# Altium footprint library NFC_Access_Lib.PcbLib: 44 footprints (part 3 of 3)
Each footprint in its own frame and in the unit in brackets; x right, y up, seen from the top. Pads: shape width x height; smd on the part's side, far side on the other; paste and mask are expansions set on the pad; w line width, h text height; cw(c..) or ccw(c..) is an arc to the next point about the centre after c.
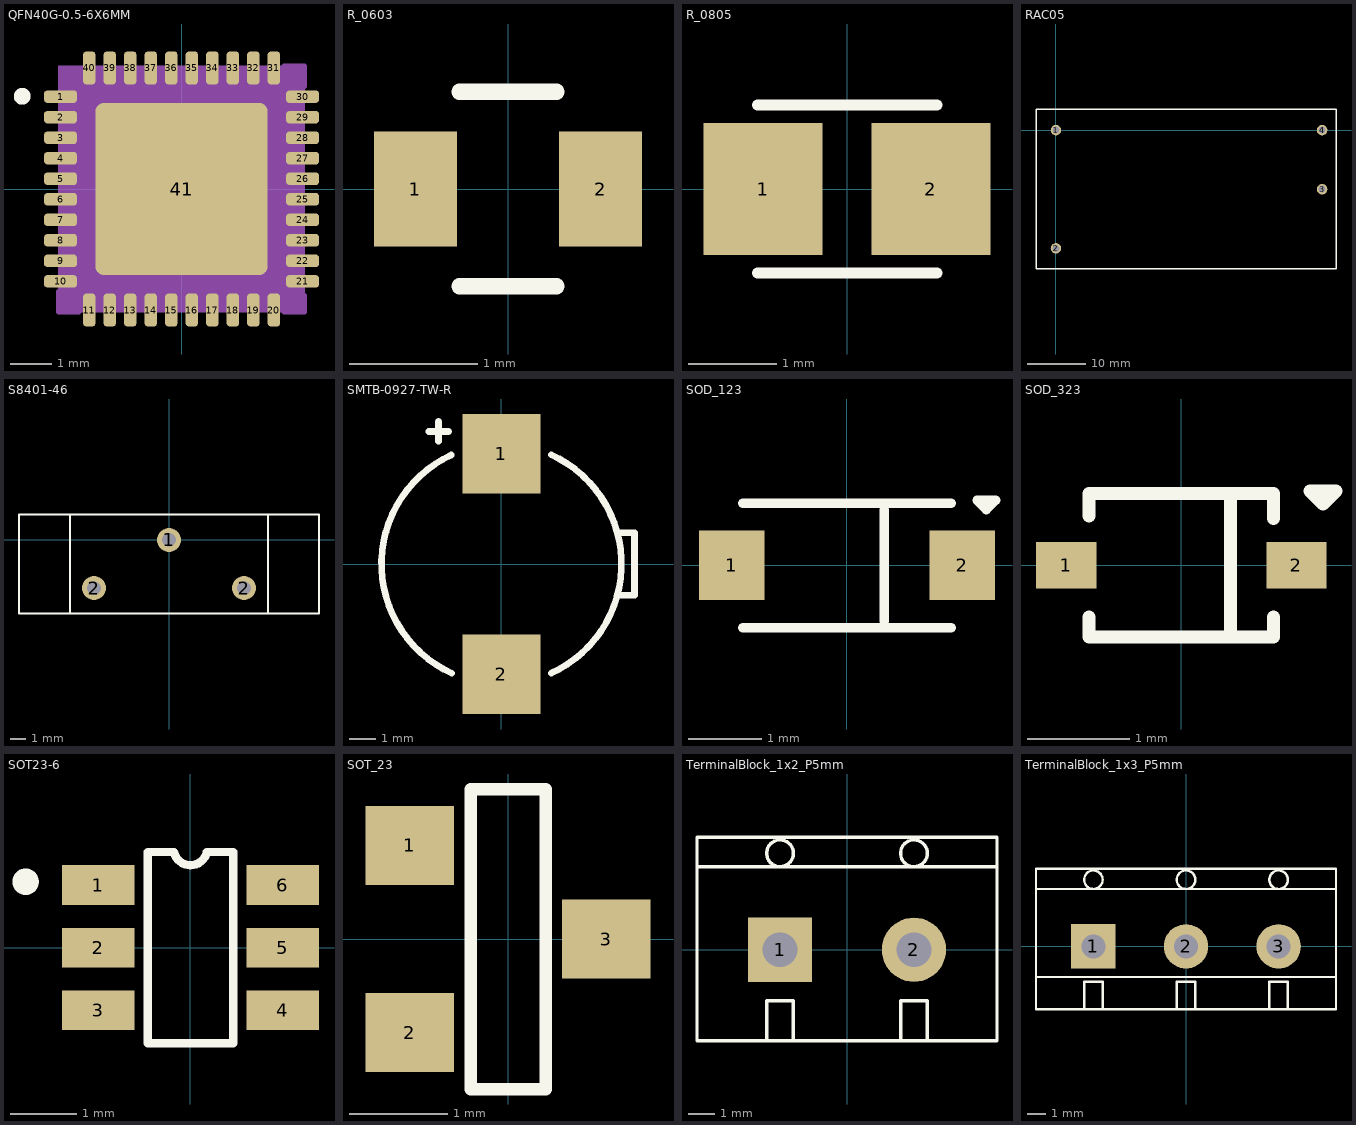
[diagram p2: the footprints below, top view; thin cyan lines are the x and y axes]

## QFN40G-0.5-6X6MM [mm]
pads (41):
  rrect50% 0.8x0.3 smd: 1(-2.95,2.25) 2(-2.95,1.75) 3(-2.95,1.25) 4(-2.95,0.75) 5(-2.95,0.25) 6(-2.95,-0.25) 7(-2.95,-0.75) 8(-2.95,-1.25) 9(-2.95,-1.75) 10(-2.95,-2.25) 21(2.95,-2.25) 22(2.95,-1.75) 23(2.95,-1.25) 24(2.95,-0.75) 25(2.95,-0.25) 26(2.95,0.25) 27(2.95,0.75) 28(2.95,1.25) 29(2.95,1.75) 30(2.95,2.25)
  rrect50% 0.3x0.8 smd: 11(-2.25,-2.95) 12(-1.75,-2.95) 13(-1.25,-2.95) 14(-0.75,-2.95) 15(-0.25,-2.95) 16(0.25,-2.95) 17(0.75,-2.95) 18(1.25,-2.95) 19(1.75,-2.95) 20(2.25,-2.95) 31(2.25,2.95) 32(1.75,2.95) 33(1.25,2.95) 34(0.75,2.95) 35(0.25,2.95) 36(-0.25,2.95) 37(-0.75,2.95) 38(-1.25,2.95) 39(-1.75,2.95) 40(-2.25,2.95)
  rrect10% 4.2x4.2 smd: 41(0,0)
Top Overlay:
  circle w0.254: c-3.886,2.261 r0.076
Mechanical 13:
  lines w0.127: -3,-2.5 -3,-3 -2.5,-3 ; 2.5,-3 3,-3 3,-2.6 ; 2.5,3 3,3 3,2.5
Mechanical 15:
  region: 3,-3 -3,-3 -3,3 3,3

## R_0603 [mm] "Chip Resistor, 2-Leads, Body 2.00x1.25mm, IPC Low Density"
height 0.65
pads (2):
  rect 0.65x0.9 smd: 1(-0.725,0) 2(0.725,0)
Top Overlay:
  lines w0.127: -0.381,-0.762 0.381,-0.762 ; -0.381,0.762 0.381,0.762

## R_0805 [mm] "Chip Resistor, 2-Leads, Body 2.00x1.25mm, IPC Low Density"
height 0.65
pads (2):
  rect 1.35x1.5 smd: 1(-0.95,0) 2(0.95,0)
Top Overlay:
  lines w0.127: -1.016,-0.953 1.016,-0.953 ; -1.016,0.953 1.016,0.953
3D body "User Library-CR2012-0805.STEP": height 0.6, standoff 0, extent -1,-0.625 1,0.625

## RAC05 [mm]
pads (4):
  round 1.8 hole 1.2: 1(0,0) 2(0,-20.32) 3(45.72,-10.16) 4(45.72,0)
Top Overlay:
  lines w0.254: -3.429,-23.82 -3.39,-23.82 ; -3.39,-23.82 48.11,-23.82 48.11,3.58 -3.39,3.58 -3.39,-23.82

## S8401-46 [mm]
pads (3):
  round 1.6 hole 0.9: 1(0,0) 2(-5,-3.2) 2(5,-3.2)
Top Overlay:
  lines w0.127: -6.6,-4.9 -6.6,1.7 ; 6.6,-4.9 6.6,1.7 ; -10,-4.9 10,-4.9 10,1.7 -10,1.7 -10,-4.9

## SMTB-0927-TW-R [mm] "3V3 Active Buzzer"
pads (2):
  rect 3x3.05 smd: 1(0,4.225) 2(0,-4.225)
Top Overlay:
  lines w0.254: -2.794,5.08 -2.032,5.08 ; -2.413,4.699 -2.413,5.461 ; -1.921,4.18 ccw(c0,0) -1.903,-4.188 ; 1.903,4.188 cw(c0,0) 1.912,-4.184 ; 4.445,-1.2 5.1,-1.2 ; 4.445,1.2 5.1,1.2 5.1,-1.2 ; 5.1,-1.143 5.1,-1.2

## SOD_123 [mm]
pads (2):
  rect 0.9x0.95 smd: 1(-1.575,0) 2(1.575,0)
Top Overlay:
  lines w0.127: -1.425,-0.85 1.425,-0.85 ; -1.425,0.85 1.425,0.85 ; 0.508,-0.762 0.508,0.762 ; 1.778,0.889 2.032,0.889 1.905,0.762 1.778,0.889
3D body "User Library-SOD-123_DiodesInc.STEP": height 0.92, standoff -0.53, extent -1.925,-0.85 1.925,0.85

## SOD_323 [mm]
pads (2):
  rect 0.59x0.45 smd: 1(-1.125,0) 2(1.125,0)
Top Overlay:
  lines w0.127: -0.9,-0.508 -0.9,-0.7 0.9,-0.7 0.9,-0.508 ; -0.9,0.483 -0.9,0.7 0.9,0.7 0.9,0.457 ; 0.483,-0.7 0.483,0.686 ; 1.257,0.724 1.384,0.597 1.511,0.724 1.257,0.724
3D body "User Library-SOD323.STEP": height 0.9, standoff -0.09, extent -1.275,-0.625 1.225,0.625

## SOT23-6 [mm]
pads (6):
  rect 1.1x0.6 smd: 1(-1.4,0.95) 2(-1.4,0) 3(-1.4,-0.95) 4(1.4,-0.95) 5(1.4,0) 6(1.4,0.95)
Top Overlay:
  circle w0.2: c-2.5,1 r0.1
  lines w0.127: -0.65,-1.45 -0.65,1.45 -0.25,1.45 ccw(c0,1.506) 0.25,1.45 0.65,1.45 0.65,-1.45 -0.65,-1.45
3D body "User Library-SOT23-6-2.STEP": height 1.45, standoff 0, extent -1.4,-1.45 1.4,1.45

## SOT_23 [mm]
pads (3):
  rect 0.9x0.8 smd: 1(-1,0.95) 2(-1,-0.95) 3(1,0)
Top Overlay:
  lines w0.127: -0.381,-1.524 0.381,-1.524 0.381,1.524 -0.381,1.524 -0.381,-1.524
3D body "User Library-SOT95P240X110-3M[SOT23-3_TO-236AB].STEP": height 1.09, standoff 0, extent -1.189,-1.482 1.311,1.518

## TerminalBlock_1x2_P5mm [mm]
pads (2):
  rect 2.4x2.4 hole 1.3 unplated: 1(-2.5,0)
  round 2.4 hole 1.3 unplated: 2(2.5,0)
Top Overlay:
  circle w0.127: c-2.5,3.6 r0.5
  circle w0.127: c2.5,3.6 r0.5
  lines w0.127: -5.588,3.1 5.588,3.1 ; -3,-3.4 -3,-1.9 -2,-1.9 -2,-3.4 ; 2,-3.4 2,-1.9 3,-1.9 3,-3.4 ; -5.6,-3.4 5.6,-3.4 5.6,4.2 -5.6,4.2 -5.6,-3.4

## TerminalBlock_1x3_P5mm [mm]
pads (3):
  rect 2.4x2.4 hole 1.3: 1(-5,0)
  round 2.4 hole 1.3: 2(0,0) 3(5,0)
Top Overlay:
  circle w0.127: c5,3.6 r0.5
  circle w0.127: c-5,3.6 r0.5
  circle w0.127: c0,3.6 r0.5
  lines w0.127: -8.1,3.1 8.1,3.1 ; -5.5,-3.4 -5.5,-1.9 -4.5,-1.9 -4.5,-3.4 ; -0.5,-3.4 -0.5,-1.9 0.5,-1.9 0.5,-3.4 ; 4.5,-3.4 4.5,-1.9 5.5,-1.9 5.5,-3.4 ; -8.1,-1.65 -8.1,-3.4 8.1,-3.4 8.1,-1.65 ; -8.1,-1.65 8.1,-1.65 ; -8.1,-1.65 -8.1,4.2 8.1,4.2 8.1,-1.65
3D body "CUI_DEVICES_TB002-500-P03BE.step": height 10, standoff -4.35, extent -8.075,-3.425 7.425,4.175